# Altium footprint library 51.PcbLib: 17 footprints (part 2 of 2)
Each footprint in its own frame and in the unit in brackets; x right, y up, seen from the top. Pads: shape width x height; smd on the part's side, far side on the other; paste and mask are expansions set on the pad; w line width, h text height; cw(c..) or ccw(c..) is an arc to the next point about the centre after c.
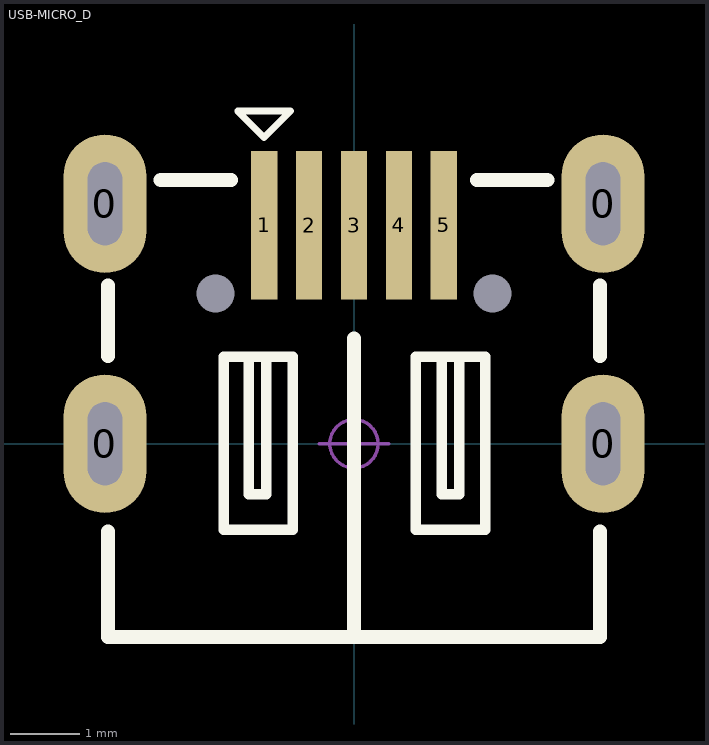
[diagram p1: the footprint, top view; thin cyan lines are the x and y axes]

## USB-MICRO_D [mm] "micro型USB ，6.7*7.5*2.5mm"
pads (11):
  oval 1.2x2 hole 0.5 slot 1.2 at 90 deg: 0(-3.6,0) 0(-3.6,3.47) 0(3.6,0) 0(3.6,3.47)
  round 0 hole 0.55 unplated: 0(-2,2.17) 0(2,2.17)
  rect 0.381x2.15 smd: 1(-1.3,3.16) 2(-0.65,3.16) 3(0,3.16) 4(0.65,3.16) 5(1.3,3.16)
Top Overlay:
  lines w0.1: -1.681,4.811 -1.3,4.43 -0.919,4.811 -1.681,4.811
  lines w0.152: -1.524,1.257 -1.524,-0.728 -1.321,-0.728 -1.27,-0.728 -1.27,1.257 ; 1.27,1.257 1.27,-0.728 1.524,-0.728 1.524,1.257 ; -1.885,-1.243 -1.885,1.257 -0.885,1.257 -0.885,-1.243 -1.885,-1.243 ; 0.896,-1.243 1.896,-1.243 1.896,1.257 0.896,1.257 0.896,-1.243
  lines w0.203: -3.556,-1.27 -3.556,-2.794 3.556,-2.794 3.556,-1.27 ; -3.556,1.27 -3.556,2.286 ; -2.794,3.81 -1.778,3.81 ; 0,-2.75 0,1.524 ; 1.778,3.81 2.794,3.81 ; 3.556,1.27 3.556,2.286
Mechanical 15:
  circle w0.05: c0,0 r0.35
  lines w0.05: -0.5,0 0.5,0 ; 0,-0.5 0,0.5
3D body "USB micro_D.STEP": height 2.79, standoff -0.95, extent -3.985,-2.75 3.985,3.95